# Altium schematic symbol library ConectorUSB.SchLib: 1 symbol
Pins are listed as number, name and electrical type; pins without a type are passive.

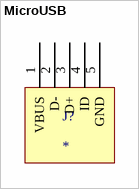
[diagram p0: symbol MicroUSB]

## MicroUSB
designator J?
Connector Micro USB Type B
footprint MICROB
pins: 1 VBUS, 2 D-, 3 D+, 4 ID, 5 GND